# EAGLE library part PROG_CONN (library Badge)
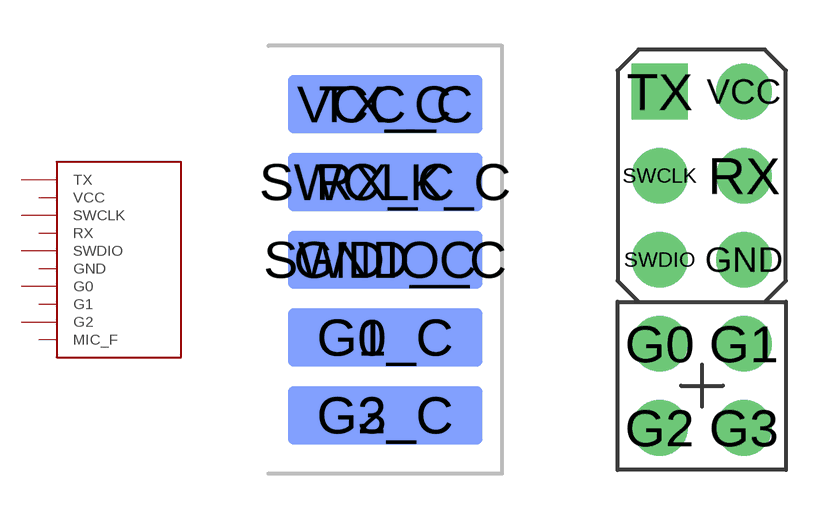
[diagram p2: symbol with the pads of EDGE_CONN; footprints EDGE_CONN, TH_CONN]

Designator prefix P

## PROG_CONNEDGE  [EDGE_CONN]
G0_C  G0
G1_C  G1
G2_C  G2
G3_C  MIC_F
GND_C  GND
RX_C  RX
SWCLK_C  SWCLK
SWDIO_C  SWDIO
TX_C  TX
VCC_C  VCC

## PROG_CONNTH  [TH_CONN]
G0  G0
G1  G1
G2  G2
G3  MIC_F
GND  GND
RX  RX
SWCLK  SWCLK
SWDIO  SWDIO
TX  TX
VCC  VCC

## PROG_CONNTH_WIDE  [TH_CONN_WIDE]
Pads as for TH_CONN

## Footprint EDGE_CONN (pad centres in mm)
smd 6.35 x 1.905: G0_C 2.54,-2.54; G2_C 2.54,-5.08; SWCLK_C 2.54,2.54; SWDIO_C 2.54,0; TX_C 2.54,5.08
smd 6.35 x 1.905 bottom: G1_C 2.54,-2.54; G3_C 2.54,-5.08; GND_C 2.54,0; RX_C 2.54,2.54; VCC_C 2.54,5.08

## Footprint TH_CONN (pad centres in mm)
drill 1 pad 1.676: G0 -1.27,-2.54; G1 1.27,-2.54; G2 -1.27,-5.08; G3 1.27,-5.08; GND 1.27,0; RX 1.27,2.54; SWCLK -1.27,2.54; SWDIO -1.27,0; VCC 1.27,5.08
drill 1 pad 1.676 square: TX -1.27,5.08

## Footprint TH_CONN_WIDE (pad centres in mm)
drill 1 pad 1.676: G0 2.54,-2.54; G1 -2.54,-2.54; G2 2.54,-5.08; G3 -2.54,-5.08; GND -2.54,0; RX -2.54,2.54; SWCLK 2.54,2.54; SWDIO 2.54,0; VCC -2.54,5.08
drill 1 pad 1.676 square: TX 2.54,5.08